# Altium schematic symbol library 2604-1102.SchLib: 1 symbol
Pins are listed as number, name and electrical type; pins without a type are passive.

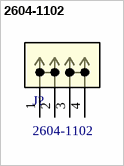
[diagram p0: symbol 2604-1102]

## 2604-1102
designator J?
Description; Manufacturer_Name: Wago; Copyright: Copyright (C) 2025 Ultra Librarian. All rights reserved.; Manufacturer_Part_Number: 2604-1102; RefDes: RefDes; Type: Type
footprint CONN2_2604-1102_WAG
pins: 1 1_1, 2 1_2, 3 2_1, 4 2_2